# EAGLE library part UWE (library murata)
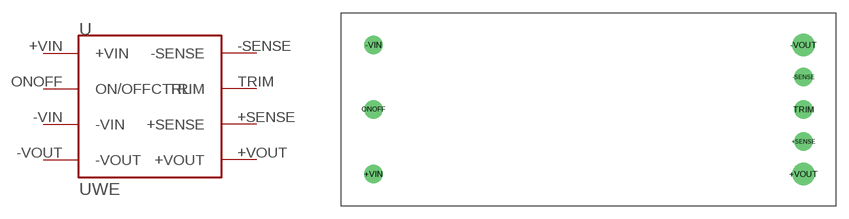
[diagram p1: symbol with the pads of UWE; footprint UWE]

Designator prefix -

## UWEUWE  [UWE]
+SENSE  +SENSE
+VIN  +VIN
+VOUT  +VOUT
-SENSE  -SENSE
-VIN  -VIN
-VOUT  -VOUT
ONOFF  ON/OFFCTRL
TRIM  TRIM

## Footprint UWE (pad centres in mm)
drill 1.27 pad 2.184: +SENSE 25.4,-3.81; +VIN -25.4,-7.62; -SENSE 25.4,3.81; -VIN -25.4,7.62; ONOFF -25.4,0; TRIM 25.4,0
drill 1.778 pad 2.54: +VOUT 25.4,-7.62; -VOUT 25.4,7.62